# EAGLE library part PIC18F25K22 (library PIC18F25K22)
PIC18F25K22 28 pin DIP
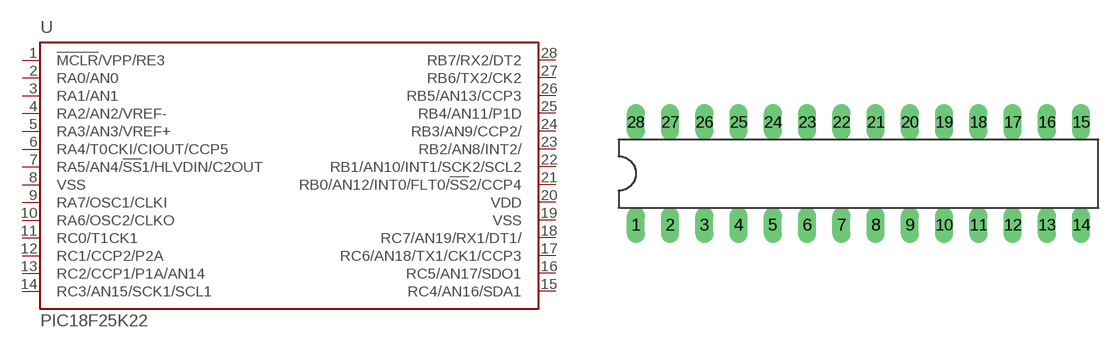
[diagram p0: symbol with the pads of PIC18F25K22; footprint PIC18F25K22]

Designator prefix -

## PIC18F25K22  [PIC18F25K22]
1  !MCLR!/VPP/RE3  in
2  RA0/AN0
3  RA1/AN1
4  RA2/AN2/VREF-
5  RA3/AN3/VREF+
6  RA4/T0CKI/CIOUT/CCP5
7  RA5/AN4/!SS!1/HLVDIN/C2OUT
8  VSS  pwr
9  RA7/OSC1/CLKI  in
10  RA6/OSC2/CLKO  out
11  RC0/T1CK1
12  RC1/CCP2/P2A
13  RC2/CCP1/P1A/AN14
14  RC3/AN15/SCK1/SCL1
15  RC4/AN16/SDA1
16  RC5/AN17/SDO1
17  RC6/AN18/TX1/CK1/CCP3
18  RC7/AN19/RX1/DT1/
19  VSS  pwr
20  VDD  pwr
21  RB0/AN12/INT0/FLT0/!SS!2/CCP4
22  RB1/AN10/INT1/SCK2/SCL2
23  RB2/AN8/INT2/
24  RB3/AN9/CCP2/
25  RB4/AN11/P1D
26  RB5/AN13/CCP3
27  RB6/TX2/CK2
28  RB7/RX2/DT2

## Footprint PIC18F25K22 (pad centres in mm)
Dual In Line package type P
drill 0.813 long: 1 -16.51,-3.81; 2 -13.97,-3.81; 3 -11.43,-3.81; 4 -8.89,-3.81; 5 -6.35,-3.81; 6 -3.81,-3.81; 7 -1.27,-3.81; 8 1.27,-3.81; 9 3.81,-3.81; 10 6.35,-3.81; 11 8.89,-3.81; 12 11.43,-3.81; 13 13.97,-3.81; 14 16.51,-3.81; 15 16.51,3.81; 16 13.97,3.81; 17 11.43,3.81; 18 8.89,3.81; 19 6.35,3.81; 20 3.81,3.81; 21 1.27,3.81; 22 -1.27,3.81; 23 -3.81,3.81; 24 -6.35,3.81; 25 -8.89,3.81; 26 -11.43,3.81; 27 -13.97,3.81; 28 -16.51,3.81